# Altium footprint library 453lib.PcbLib: 22 footprints (part 2 of 2)
Each footprint in its own frame and in the unit in brackets; x right, y up, seen from the top. Pads: shape width x height; smd on the part's side, far side on the other; paste and mask are expansions set on the pad; w line width, h text height; cw(c..) or ccw(c..) is an arc to the next point about the centre after c.
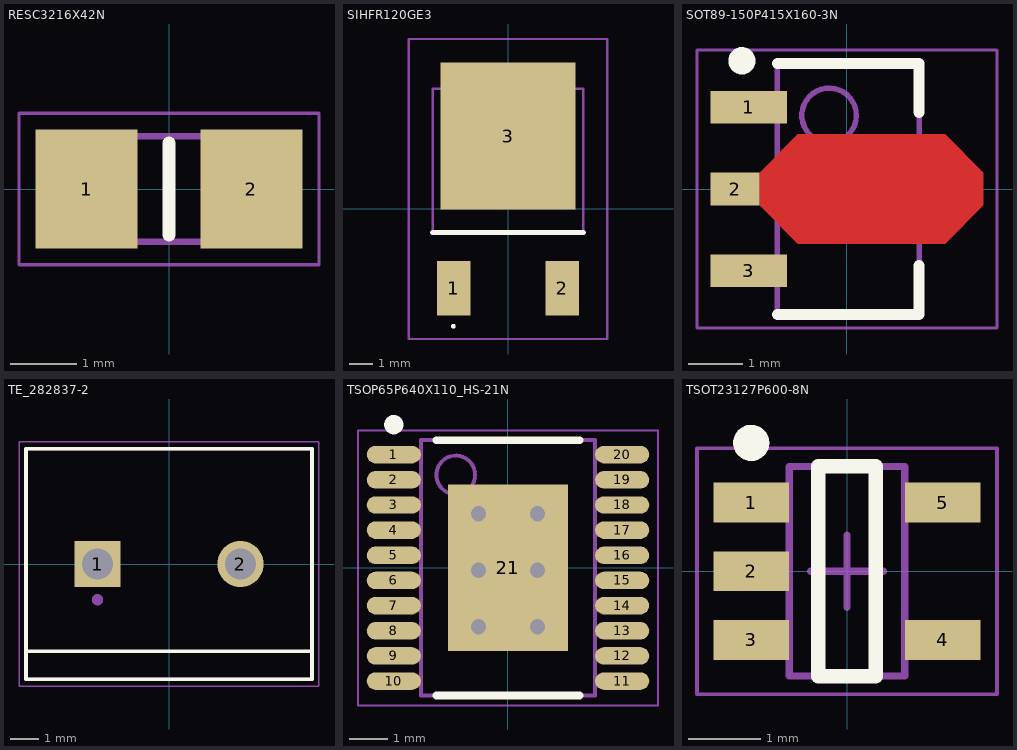
[diagram p1: the footprints below, top view; thin cyan lines are the x and y axes]

## RESC3216X42N [mm]
pads (2):
  rect 1.55x1.8 smd: 1(-1.25,0) 2(1.25,0)
Top Overlay:
  lines w0.2: 0,-0.7 0,0.7
Mechanical 13:
  lines w0.1: -1.6,-0.8 -1.6,0.8 1.6,0.8 1.6,-0.8 -1.6,-0.8
Mechanical 15:
  lines w0.05: -2.275,-1.15 -2.275,1.15 2.275,1.15 2.275,-1.15 -2.275,-1.15
3D body "PMR18EZPJ000.stp": height 0.42, standoff 0, extent -1.6,-0.8 1.6,0.8

## SIHFR120GE3 [mil] "nmos"
pads (3):
  rect 55x90 smd: 1(-90,-131.69) 2(90,-131.69)
  rect 224.02x243.31 smd: 3(0,120.24)
Top Overlay:
  lines w3.94: -90.55,-196.85 ccw(c-90.55,-194.88) -90.55,-192.91 ccw(c-90.55,-194.88) -90.55,-196.85
  lines w7.87: -125,-39.37 125,-39.37
Mechanical 13:
  lines w3.94: -125,-39.37 -125,198.82 125,198.82 125,-39.37 -125,-39.37
Mechanical 15:
  lines w3.94: -164.37,-216.06 -164.37,281.26 164.37,281.26 164.37,-216.06 -164.37,-216.06

## SOT89-150P415X160-3N [mm] "SOT89, 3-Leads, Body 4.50x2.50mm, Pitch 1.50mm, Lead Span 4.2mm, IPC Medium Density"
height 1.6
pads (3):
  rect 1.4x0.6 smd: 1(-1.8,1.5) 3(-1.8,-1.5)
  rect 0.9x0.6 smd: 2(-2.05,0)
Top Layer:
  region: -1.6,0.3 -0.9,1 1.8,1 2.5,0.3 2.5,-0.3 1.8,-1 -0.9,-1 -1.6,-0.3
Top Overlay:
  circle w0.25: c-1.927,2.35 r0.125
  lines w0.2: -1.277,-2.3 1.323,-2.3 1.323,-1.4 ; -1.277,2.3 1.323,2.3 1.323,1.4
Mechanical 13:
  circle w0.1: c-0.327,1.35 r0.5
  lines w0.1: -1.277,-2.3 1.323,-2.3 1.323,2.3 -1.277,2.3 -1.277,-2.3
Mechanical 15:
  lines w0.05: -2.75,-2.55 2.75,-2.55 2.75,2.55 -2.75,2.55 -2.75,-2.55
  lines w0.1: -0.477,0 0.523,0 ; 0.023,-0.5 0.023,0.5
3D body: height 1.6, standoff 0, extent -1.277,-2.3 1.323,2.3

## TE_282837-2 [mm] "Side entr dual screw down wire"
pads (2):
  rect 1.65x1.65 hole 1.1: 1(-2.54,0)
  round 1.65 hole 1.1: 2(2.54,0)
Top Overlay:
  lines w0.127: -5.08,-3.1 5.08,-3.1 ; -5.08,-3.1 -5.08,4.1 5.08,4.1 5.08,-3.1 ; -5.08,-3.1 -5.08,-4.1 5.08,-4.1 5.08,-3.1
Mechanical 13:
  circle w0.2: c-2.54,-1.27 r0.1
  lines w0.127: -5.08,-4.1 -5.08,4.1 5.08,4.1 5.08,-4.1 -5.08,-4.1
Mechanical 15:
  lines w0.05: -5.33,-4.35 -5.33,4.35 5.33,4.35 5.33,-4.35 -5.33,-4.35
3D body "step_temp.STEP": height 7.25, standoff -6.25, extent -5.38,-4.009 5.38,4.191

## TSOP65P640X110_HS-21N [mm] "TSOP, 20-Leads, Body 6.50x4.40mm, Pitch 0.65mm, Thermal Pad 4.30x3.10mm, IPC Medium Density"
height 1.1
pads (21):
  oval 1.4x0.45 smd: 1(-2.95,2.925) 2(-2.95,2.275) 3(-2.95,1.625) 4(-2.95,0.975) 5(-2.95,0.325) 6(-2.95,-0.325) 7(-2.95,-0.975) 8(-2.95,-1.625) 9(-2.95,-2.275) 10(-2.95,-2.925) 11(2.95,-2.925) 12(2.95,-2.275) 13(2.95,-1.625) 14(2.95,-0.975) 15(2.95,-0.325) 16(2.95,0.325) 17(2.95,0.975) 18(2.95,1.625) 19(2.95,2.275) 20(2.95,2.925)
  rect 3.1x4.3 smd: 21(0,0)
via 0.762,-1.524 diameter 1 hole 0.4
via 0.762,-0.064 diameter 1 hole 0.4
via 0.762,1.397 diameter 1 hole 0.4
via -0.762,-1.524 diameter 1 hole 0.4
via -0.762,-0.064 diameter 1 hole 0.4
via -0.762,1.397 diameter 1 hole 0.4
Top Overlay:
  circle w0.25: c-2.95,3.7 r0.125
  lines w0.2: -1.85,-3.3 1.85,-3.3 ; -1.85,3.3 1.85,3.3
Mechanical 13:
  circle w0.1: c-1.35,2.4 r0.5
  lines w0.1: -2.25,-3.3 -2.25,3.3 2.25,3.3 2.25,-3.3 -2.25,-3.3
Mechanical 15:
  lines w0.05: -3.875,-3.55 -3.875,3.55 3.875,3.55 3.875,-3.55 -3.875,-3.55
  lines w0.1: -0.5,0 0.5,0 ; 0,-0.5 0,0.5
3D body: height 1.1, standoff 0.05, extent -2.25,-3.3 2.25,3.3

## TSOT23127P600-8N [mm]
height 1
pads (5):
  rect 1.05x0.55 smd: 1(-1.325,0.95) 2(-1.325,0) 3(-1.325,-0.95) 4(1.325,-0.95) 5(1.325,0.95)
Top Overlay:
  circle w0.25: c-1.325,1.775 r0.125
  lines w0.2: -0.4,-1.45 0.4,-1.45 0.4,1.45 -0.4,1.45 -0.4,-1.45
Mechanical 13:
  lines w0.1: -0.8,-1.45 -0.8,1.45 0.8,1.45 0.8,-1.45 -0.8,-1.45
Mechanical 15:
  lines w0.05: -2.075,-1.7 -2.075,1.7 2.075,1.7 2.075,-1.7 -2.075,-1.7
  lines w0.1: -0.5,0 0.5,0 ; 0,-0.5 0,0.5
3D body: height 1, standoff 0.1, extent -0.8,-1.45 0.8,1.45